# Altium schematic symbol library SCH - ARM CORTEX - STM STM32G051G(6-8)Ux.SchLib: 1 symbol
Pins are listed as number, name and electrical type; pins without a type are passive.

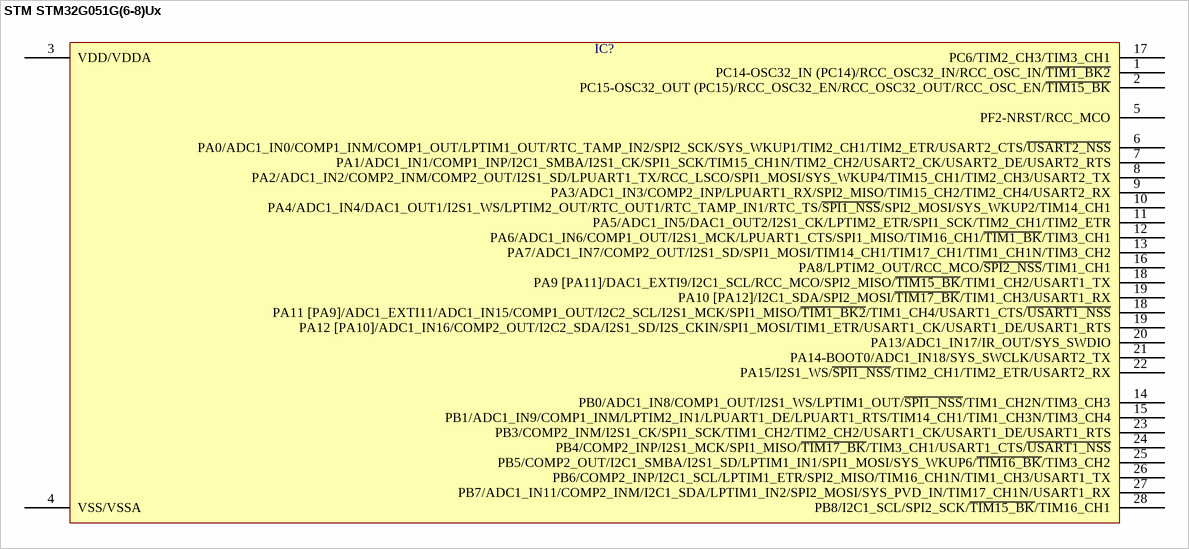
[diagram p0: symbol STM STM32G051G(6-8)Ux]

## STM STM32G051G(6-8)Ux
designator IC?  (value not drawn)
pins: 1 PC14-OSC32_IN (PC14)/RCC_OSC32_IN/RCC_OSC_IN/~{TIM1_BK2}, 2 PC15-OSC32_OUT (PC15)/RCC_OSC32_EN/RCC_OSC32_OUT/RCC_OSC_EN/~{TIM15_BK}, 3 VDD/VDDA, 4 VSS/VSSA, 5 PF2-NRST/RCC_MCO, 6 PA0/ADC1_IN0/COMP1_INM/COMP1_OUT/LPTIM1_OUT/RTC_TAMP_IN2/SPI2_SCK/SYS_WKUP1/TIM2_CH1/TIM2_ETR/USART2_CTS/~{USART2_NSS}, 7 PA1/ADC1_IN1/COMP1_INP/I2C1_SMBA/I2S1_CK/SPI1_SCK/TIM15_CH1N/TIM2_CH2/USART2_CK/USART2_DE/USART2_RTS, 8 PA2/ADC1_IN2/COMP2_INM/COMP2_OUT/I2S1_SD/LPUART1_TX/RCC_LSCO/SPI1_MOSI/SYS_WKUP4/TIM15_CH1/TIM2_CH3/USART2_TX, 9 PA3/ADC1_IN3/COMP2_INP/LPUART1_RX/SPI2_MISO/TIM15_CH2/TIM2_CH4/USART2_RX, 10 PA4/ADC1_IN4/DAC1_OUT1/I2S1_WS/LPTIM2_OUT/RTC_OUT1/RTC_TAMP_IN1/RTC_TS/~{SPI1_NSS}/SPI2_MOSI/SYS_WKUP2/TIM14_CH1, 11 PA5/ADC1_IN5/DAC1_OUT2/I2S1_CK/LPTIM2_ETR/SPI1_SCK/TIM2_CH1/TIM2_ETR, 12 PA6/ADC1_IN6/COMP1_OUT/I2S1_MCK/LPUART1_CTS/SPI1_MISO/TIM16_CH1/~{TIM1_BK}/TIM3_CH1, 13 PA7/ADC1_IN7/COMP2_OUT/I2S1_SD/SPI1_MOSI/TIM14_CH1/TIM17_CH1/TIM1_CH1N/TIM3_CH2, 14 PB0/ADC1_IN8/COMP1_OUT/I2S1_WS/LPTIM1_OUT/~{SPI1_NSS}/TIM1_CH2N/TIM3_CH3, 15 PB1/ADC1_IN9/COMP1_INM/LPTIM2_IN1/LPUART1_DE/LPUART1_RTS/TIM14_CH1/TIM1_CH3N/TIM3_CH4, 16 PA8/LPTIM2_OUT/RCC_MCO/~{SPI2_NSS}/TIM1_CH1, 17 PC6/TIM2_CH3/TIM3_CH1, 18 PA9 [PA11]/DAC1_EXTI9/I2C1_SCL/RCC_MCO/SPI2_MISO/~{TIM15_BK}/TIM1_CH2/USART1_TX, 18 PA11 [PA9]/ADC1_EXTI11/ADC1_IN15/COMP1_OUT/I2C2_SCL/I2S1_MCK/SPI1_MISO/~{TIM1_BK2}/TIM1_CH4/USART1_CTS/~{USART1_NSS}, 19 PA10 [PA12]/I2C1_SDA/SPI2_MOSI/~{TIM17_BK}/TIM1_CH3/USART1_RX, 19 PA12 [PA10]/ADC1_IN16/COMP2_OUT/I2C2_SDA/I2S1_SD/I2S_CKIN/SPI1_MOSI/TIM1_ETR/USART1_CK/USART1_DE/USART1_RTS, 20 PA13/ADC1_IN17/IR_OUT/SYS_SWDIO, 21 PA14-BOOT0/ADC1_IN18/SYS_SWCLK/USART2_TX, 22 PA15/I2S1_WS/~{SPI1_NSS}/TIM2_CH1/TIM2_ETR/USART2_RX, 23 PB3/COMP2_INM/I2S1_CK/SPI1_SCK/TIM1_CH2/TIM2_CH2/USART1_CK/USART1_DE/USART1_RTS, 24 PB4/COMP2_INP/I2S1_MCK/SPI1_MISO/~{TIM17_BK}/TIM3_CH1/USART1_CTS/~{USART1_NSS}, 25 PB5/COMP2_OUT/I2C1_SMBA/I2S1_SD/LPTIM1_IN1/SPI1_MOSI/SYS_WKUP6/~{TIM16_BK}/TIM3_CH2, 26 PB6/COMP2_INP/I2C1_SCL/LPTIM1_ETR/SPI2_MISO/TIM16_CH1N/TIM1_CH3/USART1_TX, 27 PB7/ADC1_IN11/COMP2_INM/I2C1_SDA/LPTIM1_IN2/SPI2_MOSI/SYS_PVD_IN/TIM17_CH1N/USART1_RX, 28 PB8/I2C1_SCL/SPI2_SCK/~{TIM15_BK}/TIM16_CH1